# Altium schematic symbol library SCH - MCU - INFINEON - INFINEON S6E1C32B0XXP2 LQFP-32.SchLib: 1 symbol
Pins are listed as number, name and electrical type; pins without a type are passive.

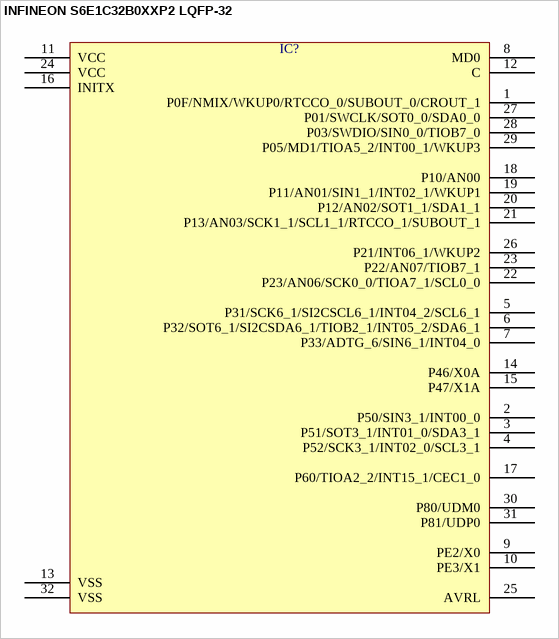
[diagram p0: symbol INFINEON S6E1C32B0XXP2 LQFP-32]

## INFINEON S6E1C32B0XXP2 LQFP-32
designator IC?  (value not drawn)
pins: 1 P0F/NMIX/WKUP0/RTCCO_0/SUBOUT_0/CROUT_1, 2 P50/SIN3_1/INT00_0, 3 P51/SOT3_1/INT01_0/SDA3_1, 4 P52/SCK3_1/INT02_0/SCL3_1, 5 P31/SCK6_1/SI2CSCL6_1/INT04_2/SCL6_1, 6 P32/SOT6_1/SI2CSDA6_1/TIOB2_1/INT05_2/SDA6_1, 7 P33/ADTG_6/SIN6_1/INT04_0, 8 MD0, 9 PE2/X0, 10 PE3/X1, 11 VCC, 12 C, 13 VSS, 14 P46/X0A, 15 P47/X1A, 16 INITX, 17 P60/TIOA2_2/INT15_1/CEC1_0, 18 P10/AN00, 19 P11/AN01/SIN1_1/INT02_1/WKUP1, 20 P12/AN02/SOT1_1/SDA1_1, 21 P13/AN03/SCK1_1/SCL1_1/RTCCO_1/SUBOUT_1, 22 P23/AN06/SCK0_0/TIOA7_1/SCL0_0, 23 P22/AN07/TIOB7_1, 24 VCC, 25 AVRL, 26 P21/INT06_1/WKUP2, 27 P01/SWCLK/SOT0_0/SDA0_0, 28 P03/SWDIO/SIN0_0/TIOB7_0, 29 P05/MD1/TIOA5_2/INT00_1/WKUP3, 30 P80/UDM0, 31 P81/UDP0, 32 VSS